# EAGLE library part EFM8UB10F16G-C-QFN28 (library MCU)
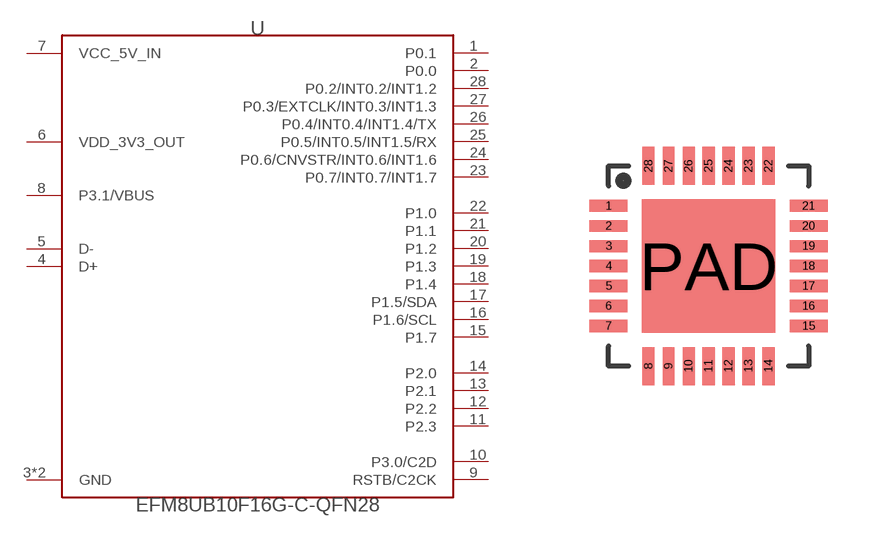
[diagram p11: symbol with the pads of QFN-28; footprint QFN-28]

Designator prefix U

## EFM8UB10F16G-C-QFN28  [QFN-28]
1  P0.1
2  P0.0
3  GND
4  D+
5  D-
6  VDD_3V3_OUT
7  VCC_5V_IN
8  P3.1/VBUS
9  RSTB/C2CK
10  P3.0/C2D
11  P2.3
12  P2.2
13  P2.1
14  P2.0
15  P1.7
16  P1.6/SCL
17  P1.5/SDA
18  P1.4
19  P1.3
20  P1.2
21  P1.1
22  P1.0
23  P0.7/INT0.7/INT1.7
24  P0.6/CNVSTR/INT0.6/INT1.6
25  P0.5/INT0.5/INT1.5/RX
26  P0.4/INT0.4/INT1.4/TX
27  P0.3/EXTCLK/INT0.3/INT1.3
28  P0.2/INT0.2/INT1.2
PAD  GND

## Footprint QFN-28 (pad centres in mm)
smd 0.95 x 0.3: 1 -2.5,1.5; 2 -2.5,1; 3 -2.5,0.5; 4 -2.5,0; 5 -2.5,-0.5; 6 -2.5,-1; 7 -2.5,-1.5; 15 2.5,-1.5; 16 2.5,-1; 17 2.5,-0.5; 18 2.5,0; 19 2.5,0.5; 20 2.5,1; 21 2.5,1.5
smd 0.3 x 0.95: 8 -1.5,-2.5; 9 -1,-2.5; 10 -0.5,-2.5; 11 0,-2.5; 12 0.5,-2.5; 13 1,-2.5; 14 1.5,-2.5; 22 1.5,2.5; 23 1,2.5; 24 0.5,2.5; 25 0,2.5; 26 -0.5,2.5; 27 -1,2.5; 28 -1.5,2.5
smd 3.35 x 3.35: PAD 0,0